# Altium schematic symbol library MOCD207M.Schlib: 1 symbol
Pins are listed as number, name and electrical type; pins without a type are passive.

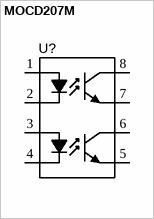
[diagram p0: symbol MOCD207M]

## MOCD207M
designator U?
OPTOCOUPLER TRANS-OUT 2CH 8-SOIC
pins: 1 "Anode", 2 "Cathode", 3, 4, 5, 6 "Collector", 7, 8 "Collector"